# EAGLE library part M06-JST (library JST)
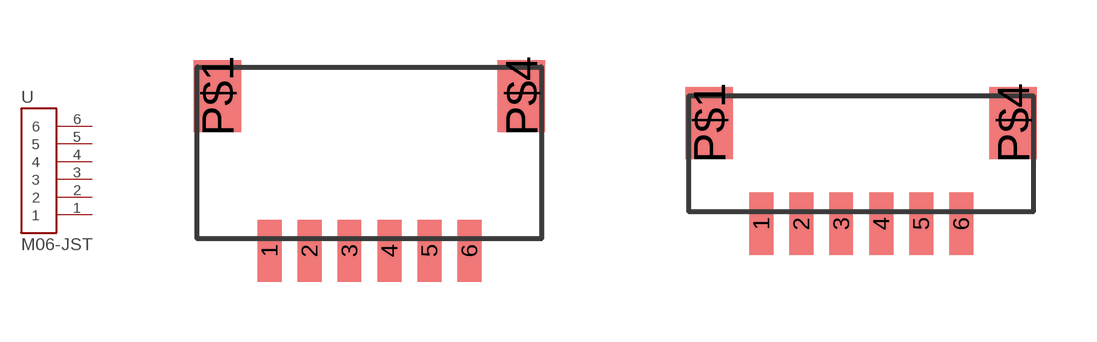
[diagram p0: symbol with the pads of M06-ESH-SIDE; footprints M06-ESH-SIDE, M06-ESH-TOP]

Designator prefix -

## M06-JST1.0MM-SIDE  [M06-ESH-SIDE]
1  1
2  2
3  3
4  4
5  5
6  6

## M06-JST1.0MM-TOP  [M06-ESH-TOP]
Pads as for M06-ESH-SIDE

## M06-JST1.5MM-SIDE  [M06-EZH-SIDE]
Pads as for M06-ESH-SIDE

## M06-JST1.5MM-TOP  [M06-EZH-TOP]
Pads as for M06-ESH-SIDE

## M06-JST2.0MM-SIDE  [M06-EPH-SIDE]
Pads as for M06-ESH-SIDE

## M06-JST2.0MM-TOP  [M06-EPH-TOP]
Pads as for M06-ESH-SIDE

## Footprint M06-ESH-SIDE (pad centres in mm)
smd 0.6 x 1.55: 1 0,0; 2 1,0; 3 2,0; 4 3,0; 5 4,0; 6 5,0
smd 1.2 x 1.8: P$1 -1.3,3.875; P$4 6.3,3.875

## Footprint M06-ESH-TOP (pad centres in mm)
smd 0.6 x 1.55: 1 0,0; 2 1,0; 3 2,0; 4 3,0; 5 4,0; 6 5,0
smd 1.2 x 1.8: P$1 -1.3,2.525; P$4 6.3,2.525

## Footprint M06-EZH-SIDE (pad centres in mm)
smd 0.7 x 2.4: 1 0,-1.2; 2 1.5,-1.2; 3 3,-1.2; 4 4.5,-1.2; 5 6,-1.2; 6 7.5,-1.2
smd 1.1 x 1.9: P$1 -1.95,2.75; P$2 9.45,2.75

## Footprint M06-EZH-TOP (pad centres in mm)
smd 0.7 x 2.4: 1 0,-1.2; 2 1.5,-1.2; 3 3,-1.2; 4 4.5,-1.2; 5 6,-1.2; 6 7.5,-1.2
smd 1.5 x 2.3: P$1 -2.05,0.25; P$2 9.55,0.25

## Footprint M06-EPH-SIDE (pad centres in mm)
smd 1 x 5: 1 0,-2.5; 2 2,-2.5; 3 4,-2.5; 4 6,-2.5; 5 8,-2.5; 6 10,-2.5
smd 1.5 x 3.4: P$1 -2.4,4; P$2 12.4,4

## Footprint M06-EPH-TOP (pad centres in mm)
smd 1 x 5.5: 1 0,-2.75; 2 2,-2.75; 3 4,-2.75; 4 6,-2.75; 5 8,-2.75; 6 10,-2.75
smd 1.6 x 3: P$1 -2.4,-0.5; P$2 12.4,-0.5